# EAGLE library part XCV1000E_HQ240 (library xilinx-xcv)
xcv1000e_hq240 edit this description Auto generated by make-symbol-device-package-bsdl.ulp Rev. 26 Source: xcv1000e_hq240.bsd
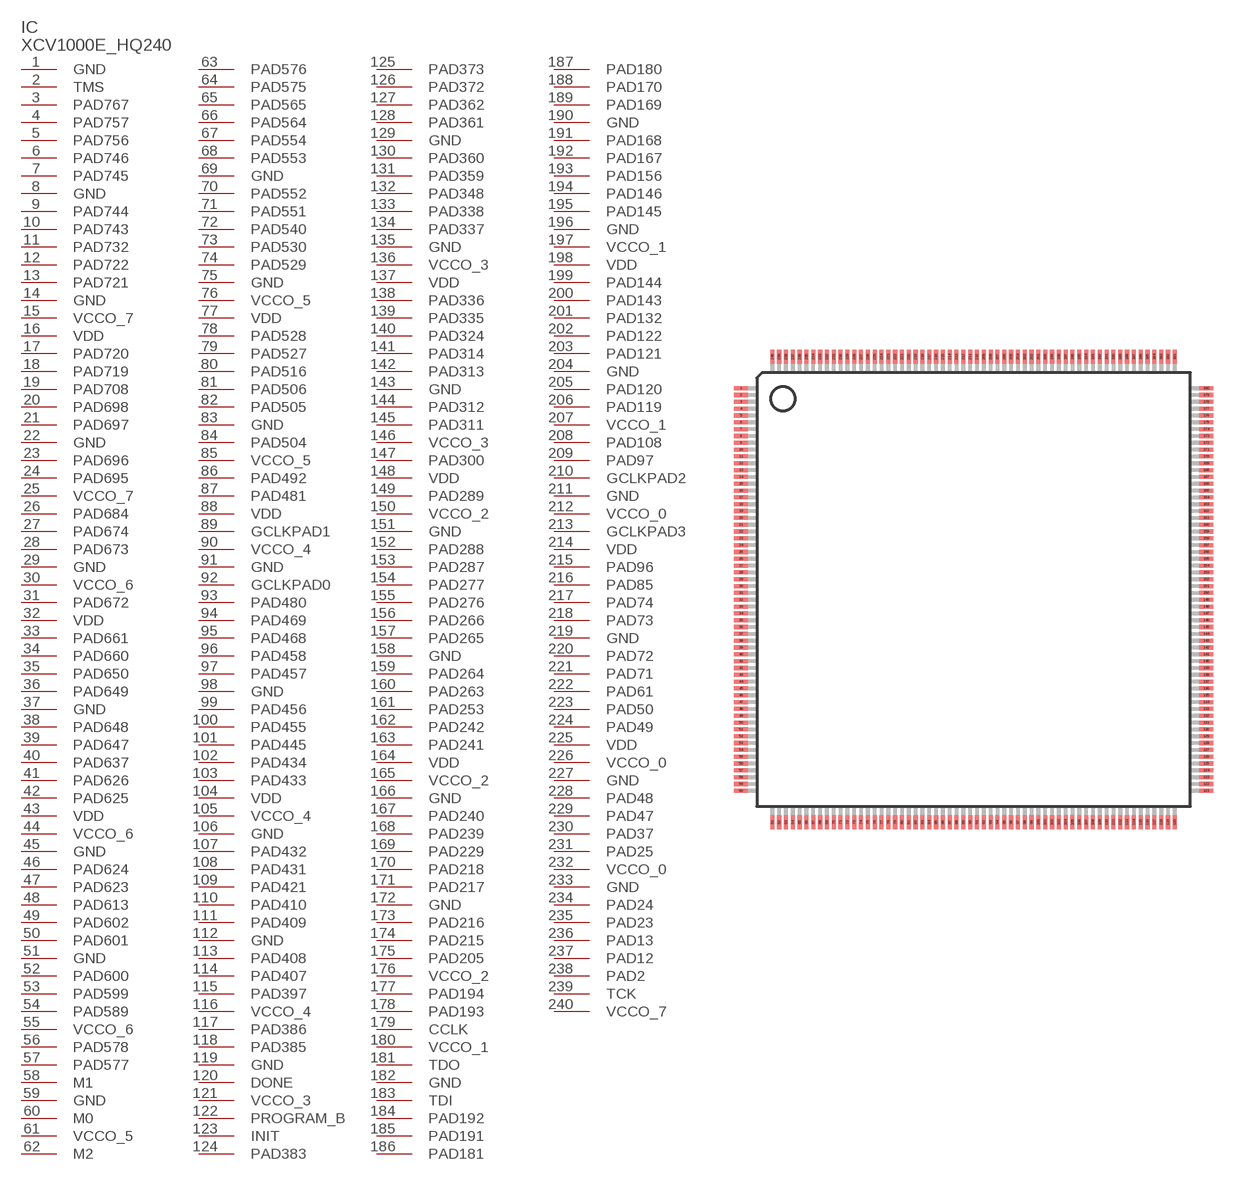
[diagram p14: symbol with the pads of HQ240; footprint HQ240]

Designator prefix IC

## XCV1000E_HQ240 (OC_FARNELL: unknown; OC_NEWARK: unknown)  [HQ240]
1  GND  pwr
2  TMS  in
3  PAD767
4  PAD757
5  PAD756
6  PAD746
7  PAD745
8  GND  pwr
9  PAD744
10  PAD743
11  PAD732
12  PAD722
13  PAD721
14  GND  pwr
15  VCCO_7  pwr
16  VDD  pwr
17  PAD720
18  PAD719
19  PAD708
20  PAD698
21  PAD697
22  GND  pwr
23  PAD696
24  PAD695
25  VCCO_7  pwr
26  PAD684
27  PAD674
28  PAD673
29  GND  pwr
30  VCCO_6  pwr
31  PAD672
32  VDD  pwr
33  PAD661
34  PAD660
35  PAD650
36  PAD649
37  GND  pwr
38  PAD648
39  PAD647
40  PAD637
41  PAD626
42  PAD625
43  VDD  pwr
44  VCCO_6  pwr
45  GND  pwr
46  PAD624
47  PAD623
48  PAD613
49  PAD602
50  PAD601
51  GND  pwr
52  PAD600
53  PAD599
54  PAD589
55  VCCO_6  pwr
56  PAD578
57  PAD577
58  M1  in
59  GND  pwr
60  M0  in
61  VCCO_5  pwr
62  M2  in
63  PAD576
64  PAD575
65  PAD565
66  PAD564
67  PAD554
68  PAD553
69  GND  pwr
70  PAD552
71  PAD551
72  PAD540
73  PAD530
74  PAD529
75  GND  pwr
76  VCCO_5  pwr
77  VDD  pwr
78  PAD528
79  PAD527
80  PAD516
81  PAD506
82  PAD505
83  GND  pwr
84  PAD504
85  VCCO_5  pwr
86  PAD492
87  PAD481
88  VDD  pwr
89  GCLKPAD1  in
90  VCCO_4  pwr
91  GND  pwr
92  GCLKPAD0  in
93  PAD480
94  PAD469
95  PAD468
96  PAD458
97  PAD457
98  GND  pwr
99  PAD456
100  PAD455
101  PAD445
102  PAD434
103  PAD433
104  VDD  pwr
105  VCCO_4  pwr
106  GND  pwr
107  PAD432
108  PAD431
109  PAD421
110  PAD410
111  PAD409
112  GND  pwr
113  PAD408
114  PAD407
115  PAD397
116  VCCO_4  pwr
117  PAD386
118  PAD385
119  GND  pwr
120  DONE
121  VCCO_3  pwr
122  PROGRAM_B  in
123  INIT
124  PAD383
125  PAD373
126  PAD372
127  PAD362
128  PAD361
129  GND  pwr
130  PAD360
131  PAD359
132  PAD348
133  PAD338
134  PAD337
135  GND  pwr
136  VCCO_3  pwr
137  VDD  pwr
138  PAD336
139  PAD335
140  PAD324
141  PAD314
142  PAD313
143  GND  pwr
144  PAD312
145  PAD311
146  VCCO_3  pwr
147  PAD300
148  VDD  pwr
149  PAD289
150  VCCO_2  pwr
151  GND  pwr
152  PAD288
153  PAD287
154  PAD277
155  PAD276
156  PAD266
157  PAD265
158  GND  pwr
159  PAD264
160  PAD263
161  PAD253
162  PAD242
163  PAD241
164  VDD  pwr
165  VCCO_2  pwr
166  GND  pwr
167  PAD240
168  PAD239
169  PAD229
170  PAD218
171  PAD217
172  GND  pwr
173  PAD216
174  PAD215
175  PAD205
176  VCCO_2  pwr
177  PAD194
178  PAD193
179  CCLK
180  VCCO_1  pwr
181  TDO  out
182  GND  pwr
183  TDI  in
184  PAD192
185  PAD191
186  PAD181
187  PAD180
188  PAD170
189  PAD169
190  GND  pwr
191  PAD168
192  PAD167
193  PAD156
194  PAD146
195  PAD145
196  GND  pwr
197  VCCO_1  pwr
198  VDD  pwr
199  PAD144
200  PAD143
201  PAD132
202  PAD122
203  PAD121
204  GND  pwr
205  PAD120
206  PAD119
207  VCCO_1  pwr
208  PAD108
209  PAD97
210  GCLKPAD2  in
211  GND  pwr
212  VCCO_0  pwr
213  GCLKPAD3  in
214  VDD  pwr
215  PAD96
216  PAD85
217  PAD74
218  PAD73
219  GND  pwr
220  PAD72
221  PAD71
222  PAD61
223  PAD50
224  PAD49
225  VDD  pwr
226  VCCO_0  pwr
227  GND  pwr
228  PAD48
229  PAD47
230  PAD37
231  PAD25
232  VCCO_0  pwr
233  GND  pwr
234  PAD24
235  PAD23
236  PAD13
237  PAD12
238  PAD2
239  TCK  in
240  VCCO_7  pwr

## Footprint HQ240 (pad centres in mm)
HQ240 Auto generated by make-symbol-device-package-bsdl.ulp Rev. 26
smd 1 x 0.3: 1 -17.05,14.75; 2 -17.05,14.25; 3 -17.05,13.75; 4 -17.05,13.25; 5 -17.05,12.75; 6 -17.05,12.25; 7 -17.05,11.75; 8 -17.05,11.25; 9 -17.05,10.75; 10 -17.05,10.25; 11 -17.05,9.75; 12 -17.05,9.25; 13 -17.05,8.75; 14 -17.05,8.25; 15 -17.05,7.75; 16 -17.05,7.25; 17 -17.05,6.75; 18 -17.05,6.25; 19 -17.05,5.75; 20 -17.05,5.25; 21 -17.05,4.75; 22 -17.05,4.25; 23 -17.05,3.75; 24 -17.05,3.25; 25 -17.05,2.75; 26 -17.05,2.25; 27 -17.05,1.75; 28 -17.05,1.25; 29 -17.05,0.75; 30 -17.05,0.25; 31 -17.05,-0.25; 32 -17.05,-0.75; 33 -17.05,-1.25; 34 -17.05,-1.75; 35 -17.05,-2.25; 36 -17.05,-2.75; 37 -17.05,-3.25; 38 -17.05,-3.75; 39 -17.05,-4.25; 40 -17.05,-4.75; 41 -17.05,-5.25; 42 -17.05,-5.75; 43 -17.05,-6.25; 44 -17.05,-6.75; 45 -17.05,-7.25; 46 -17.05,-7.75; 47 -17.05,-8.25; 48 -17.05,-8.75; 49 -17.05,-9.25; 50 -17.05,-9.75; 51 -17.05,-10.25; 52 -17.05,-10.75; 53 -17.05,-11.25; 54 -17.05,-11.75; 55 -17.05,-12.25; 56 -17.05,-12.75; 57 -17.05,-13.25; 58 -17.05,-13.75; 59 -17.05,-14.25; 60 -17.05,-14.75; 121 17.05,-14.75; 122 17.05,-14.25; 123 17.05,-13.75; 124 17.05,-13.25; 125 17.05,-12.75; 126 17.05,-12.25; 127 17.05,-11.75; 128 17.05,-11.25; 129 17.05,-10.75; 130 17.05,-10.25; 131 17.05,-9.75; 132 17.05,-9.25; 133 17.05,-8.75; 134 17.05,-8.25; 135 17.05,-7.75; 136 17.05,-7.25; 137 17.05,-6.75; 138 17.05,-6.25; 139 17.05,-5.75; 140 17.05,-5.25; 141 17.05,-4.75; 142 17.05,-4.25; 143 17.05,-3.75; 144 17.05,-3.25; 145 17.05,-2.75; 146 17.05,-2.25; 147 17.05,-1.75; 148 17.05,-1.25; 149 17.05,-0.75; 150 17.05,-0.25; 151 17.05,0.25; 152 17.05,0.75; 153 17.05,1.25; 154 17.05,1.75; 155 17.05,2.25; 156 17.05,2.75; 157 17.05,3.25; 158 17.05,3.75; 159 17.05,4.25; 160 17.05,4.75; 161 17.05,5.25; 162 17.05,5.75; 163 17.05,6.25; 164 17.05,6.75; 165 17.05,7.25; 166 17.05,7.75; 167 17.05,8.25; 168 17.05,8.75; 169 17.05,9.25; 170 17.05,9.75; 171 17.05,10.25; 172 17.05,10.75; 173 17.05,11.25; 174 17.05,11.75; 175 17.05,12.25; 176 17.05,12.75; 177 17.05,13.25; 178 17.05,13.75; 179 17.05,14.25; 180 17.05,14.75
smd 0.3 x 1: 61 -14.75,-17.05; 62 -14.25,-17.05; 63 -13.75,-17.05; 64 -13.25,-17.05; 65 -12.75,-17.05; 66 -12.25,-17.05; 67 -11.75,-17.05; 68 -11.25,-17.05; 69 -10.75,-17.05; 70 -10.25,-17.05; 71 -9.75,-17.05; 72 -9.25,-17.05; 73 -8.75,-17.05; 74 -8.25,-17.05; 75 -7.75,-17.05; 76 -7.25,-17.05; 77 -6.75,-17.05; 78 -6.25,-17.05; 79 -5.75,-17.05; 80 -5.25,-17.05; 81 -4.75,-17.05; 82 -4.25,-17.05; 83 -3.75,-17.05; 84 -3.25,-17.05; 85 -2.75,-17.05; 86 -2.25,-17.05; 87 -1.75,-17.05; 88 -1.25,-17.05; 89 -0.75,-17.05; 90 -0.25,-17.05; 91 0.25,-17.05; 92 0.75,-17.05; 93 1.25,-17.05; 94 1.75,-17.05; 95 2.25,-17.05; 96 2.75,-17.05; 97 3.25,-17.05; 98 3.75,-17.05; 99 4.25,-17.05; 100 4.75,-17.05; 101 5.25,-17.05; 102 5.75,-17.05; 103 6.25,-17.05; 104 6.75,-17.05; 105 7.25,-17.05; 106 7.75,-17.05; 107 8.25,-17.05; 108 8.75,-17.05; 109 9.25,-17.05; 110 9.75,-17.05; 111 10.25,-17.05; 112 10.75,-17.05; 113 11.25,-17.05; 114 11.75,-17.05; 115 12.25,-17.05; 116 12.75,-17.05; 117 13.25,-17.05; 118 13.75,-17.05; 119 14.25,-17.05; 120 14.75,-17.05; 181 14.75,17.05; 182 14.25,17.05; 183 13.75,17.05; 184 13.25,17.05; 185 12.75,17.05; 186 12.25,17.05; 187 11.75,17.05; 188 11.25,17.05; 189 10.75,17.05; 190 10.25,17.05; 191 9.75,17.05; 192 9.25,17.05; 193 8.75,17.05; 194 8.25,17.05; 195 7.75,17.05; 196 7.25,17.05; 197 6.75,17.05; 198 6.25,17.05; 199 5.75,17.05; 200 5.25,17.05; 201 4.75,17.05; 202 4.25,17.05; 203 3.75,17.05; 204 3.25,17.05; 205 2.75,17.05; 206 2.25,17.05; 207 1.75,17.05; 208 1.25,17.05; 209 0.75,17.05; 210 0.25,17.05; 211 -0.25,17.05; 212 -0.75,17.05; 213 -1.25,17.05; 214 -1.75,17.05; 215 -2.25,17.05; 216 -2.75,17.05; 217 -3.25,17.05; 218 -3.75,17.05; 219 -4.25,17.05; 220 -4.75,17.05; 221 -5.25,17.05; 222 -5.75,17.05; 223 -6.25,17.05; 224 -6.75,17.05; 225 -7.25,17.05; 226 -7.75,17.05; 227 -8.25,17.05; 228 -8.75,17.05; 229 -9.25,17.05; 230 -9.75,17.05; 231 -10.25,17.05; 232 -10.75,17.05; 233 -11.25,17.05; 234 -11.75,17.05; 235 -12.25,17.05; 236 -12.75,17.05; 237 -13.25,17.05; 238 -13.75,17.05; 239 -14.25,17.05; 240 -14.75,17.05